# EAGLE library part NRF24L01 (library Richard_Boards)
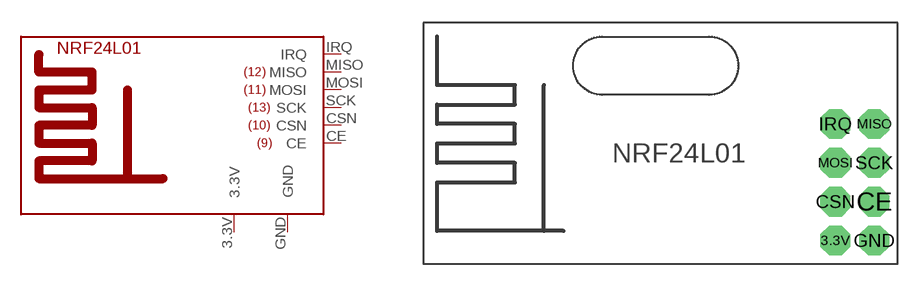
[diagram p5: symbol with the pads of NRF24L01; footprint NRF24L01]

Designator prefix -

## NRF24L01  [NRF24L01]
3.3V  3.3V  pwr
CE  CE  pwr
CSN  CSN  pwr
GND  GND  pwr
IRQ  IRQ  pwr
MISO  MISO  pwr
MOSI  MOSI  pwr
SCK  SCK  pwr

## Footprint NRF24L01 (pad centres in mm)
drill 1.3 octagon: 3.3V -3.81,1.27; CE -1.27,3.81; CSN -3.81,3.81; GND -1.27,1.27; IRQ -3.81,8.89; MISO -1.27,8.89; MOSI -3.81,6.35; SCK -1.27,6.35